# Altium footprint library Hauptplatine1.PcbLib: 50 footprints (part 4 of 4)
Each footprint in its own frame and in the unit in brackets; x right, y up, seen from the top. Pads: shape width x height; smd on the part's side, far side on the other; paste and mask are expansions set on the pad; w line width, h text height; cw(c..) or ccw(c..) is an arc to the next point about the centre after c.
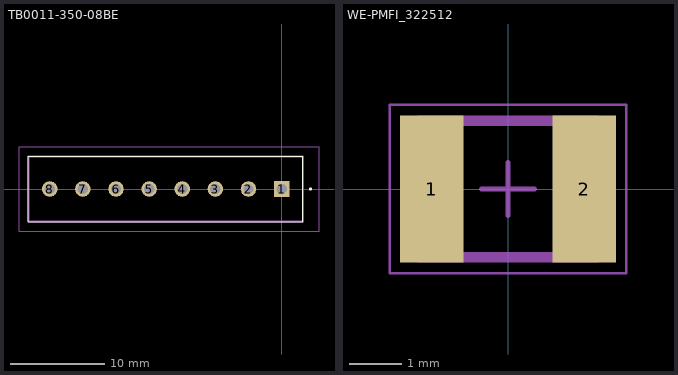
[diagram p3: the footprints below, top view; thin cyan lines are the x and y axes]

## TB0011-350-08BE [mm]
pads (8):
  rect 1.65x1.65 hole 1.1: 1(0,0)
  round 1.65 hole 1.1: 2(-3.5,0) 3(-7,0) 4(-10.5,0) 5(-14,0) 6(-17.5,0) 7(-21,0) 8(-24.5,0)
Top Overlay:
  circle w0.2: c3.05,0 r0.05
  lines w0.1: -26.75,-3.45 -26.75,3.45 2.25,3.45 2.25,-3.45 -26.75,-3.45
Mechanical 13:
  lines w0.2: -26.75,-3.45 -26.75,3.45 2.25,3.45 2.25,-3.45 -26.75,-3.45
Mechanical 15:
  lines w0.05: -27.75,-4.45 -27.75,4.45 3.95,4.45 3.95,-4.45 -27.75,-4.45
3D body "TB0011-350-08BE.stp": height 8.5, standoff -3.4, extent -26.82,-3.45 2.18,3.45

## WE-PMFI_322512 [mm] "SMT Power Inductor, body 3.20 x 2.50 mm"
height 1.2
pads (2):
  rect 1.2x2.8 smd: 1(-1.45,0) 2(1.45,0)
Top 3D Body:
  lines w0.1: -1.6,-1.25 1.6,-1.25 1.6,1.25 -1.6,1.25 -1.6,-1.25
Top Courtyard:
  lines w0.05: -2.25,-1.6 -2.25,1.6 2.25,1.6 2.25,-1.6 -2.25,-1.6
Top Assembly:
  lines w0.1: -1.7,-1.35 -1.7,1.35 1.7,1.35 1.7,-1.35 -1.7,-1.35
Top Designator:
  text ".Designator" at -3.647,-0.357 h1
Top Component Center:
  lines w0.1: -0.5,0 0.5,0 ; 0,-0.5 0,0.5
3D body "74479332257xxx_322512.stp": height 1.2, standoff 0, extent -1.6,-1.25 1.6,1.25